# Altium footprint library PcbLib.PcbLib: 21 footprints (part 2 of 2)
Each footprint in its own frame and in the unit in brackets; x right, y up, seen from the top. Pads: shape width x height; smd on the part's side, far side on the other; paste and mask are expansions set on the pad; w line width, h text height; cw(c..) or ccw(c..) is an arc to the next point about the centre after c.
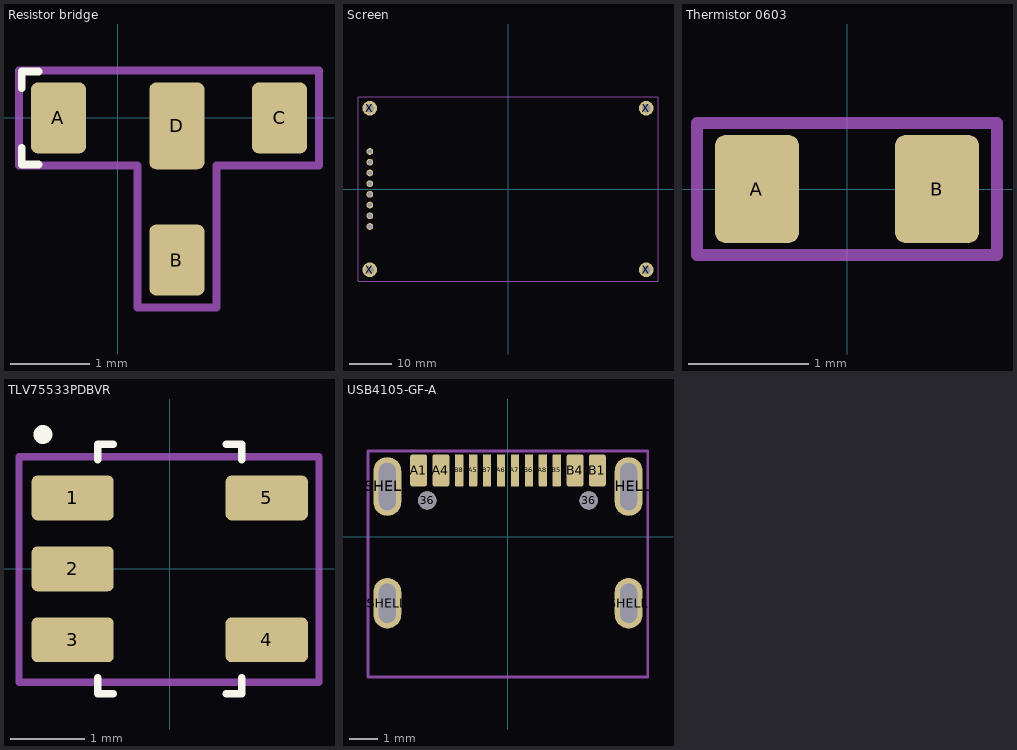
[diagram p1: the footprints below, top view; thin cyan lines are the x and y axes]

## Resistor bridge [mm] "Resistor 0603"
pads (4):
  rrect25% 0.7x0.9 smd: A(-0.75,0) B(0.75,-1.8) C(2.05,0)
  rrect25% 0.7x1.1 smd: D(0.75,-0.1)
Top Overlay:
  lines w0.1: -1.215,-0.38 -1.215,-0.59 -1.005,-0.59 ; -1.215,0.38 -1.215,0.59 -1.005,0.59
Mechanical 15:
  lines w0.1: -1.25,-0.6 0.25,-0.6 0.25,-2.4 1.25,-2.4 1.25,-1.669 1.25,-1.056 1.25,-0.6 2.55,-0.6 2.55,0.6 -1.25,0.6 -1.25,-0.6
3D body "CRGCQ0603F1K0.STEP": height 0.55, standoff 0, extent -0.8,-0.4 0.8,0.4

## Screen [mm]
pads (12):
  round 1.6 hole 1: 1(-32.75,8.89) 2(-32.75,6.35) 3(-32.75,3.81) 4(-32.75,1.27) 5(-32.75,-1.27) 6(-32.75,-3.81) 7(-32.75,-6.35) 8(-32.75,-8.89)
  round 3.5 hole 2: X(-32.75,-19.15) X(-32.75,19.15) X(32.75,-19.15) X(32.75,19.15)
Mechanical 15:
  lines w0.1: -35.55,-21.85 35.55,-21.85 35.55,21.85 -35.55,21.85 -35.55,-21.85
3D body: height 7, standoff 5, extent -28.025,-19.7 27.875,19.025
3D body: height 5.51, standoff 5, extent -35.25,-21.65 35.25,21.65

## Thermistor 0603 [mm] "Thermistor 0603"
pads (2):
  rrect25% 0.7x0.9 smd: A(-0.75,0) B(0.75,0)
Mechanical 15:
  lines w0.1: -1.25,-0.55 1.25,-0.55 1.25,0.55 -1.25,0.55 -1.25,-0.55
3D body "ERTJ1VK102FM.STEP": height 0.9, standoff 0, extent -0.8,-0.4 0.8,0.4

## TLV75533PDBVR [mm] "IC REG LINEAR 3.3V 500MA SOT23-5"
pads (5):
  rrect25% 1.1x0.6 smd: 1(-1.3,0.95) 2(-1.3,0) 3(-1.3,-0.95) 4(1.3,-0.95) 5(1.3,0.95)
Top Overlay:
  circle w0.254: c-1.7,1.8 r0.001
  lines w0.1: -0.965,-1.46 -0.965,-1.67 -0.755,-1.67 ; -0.965,1.46 -0.965,1.67 -0.755,1.67 ; 0.755,-1.67 0.965,-1.67 0.965,-1.46 ; 0.755,1.67 0.965,1.67 0.965,1.46
Mechanical 15:
  lines w0.1: -2.019,-1.519 2,-1.519 2,1.5 -2.019,1.5 -2.019,-1.519
3D body "TLV75533PDBVR.STEP": height 1.45, standoff 0, extent -1.4,-1.45 1.4,1.45

## USB4105-GF-A [mm] "CONN RCPT TYPE C 6P SMD RA"
pads (18):
  round 0.65 hole 0.65 unplated paste+0: 36(-2.89,1.303)
  round 0.65 hole 0.65 unplated mask+0.102: 36(2.89,1.303)
  rrect25% 0.6x1.15 smd: A1(-3.2,2.378) A4(-2.4,2.378) B1(3.2,2.378) B4(2.4,2.378)
  rrect25% 0.3x1.15 smd: A5(-1.25,2.378) A6(-0.25,2.378) A7(0.25,2.378) A8(1.25,2.378) B5(1.75,2.378) B6(0.75,2.378) B7(-0.75,2.378) B8(-1.75,2.378)
  oval 1x1.8 hole 0.6 slot 1.4 at 90 deg: SHELL(-4.32,-2.377) SHELL(4.32,-2.377)
  oval 1x2.1 hole 0.6 slot 1.7 at 90 deg: SHELL(-4.32,1.803) SHELL(4.32,1.803)
Mechanical 15:
  lines w0.1: -5.013,-5.022 5,-5.022 5,3.078 -5.013,3.078 -5.013,-5.022
3D body "USB4105GFA--3DModel-STEP-510211.STEP": height 3.31, standoff -1.1, extent -4.47,-4.977 4.47,2.733